# EAGLE library part M25P32 (library memory-spi)
The M25P32 is a 32Mbit (4M x 8) Serial Flash Memory, with advanced write protection mechanisms, accessed by a high speed SPI-compatible bus.
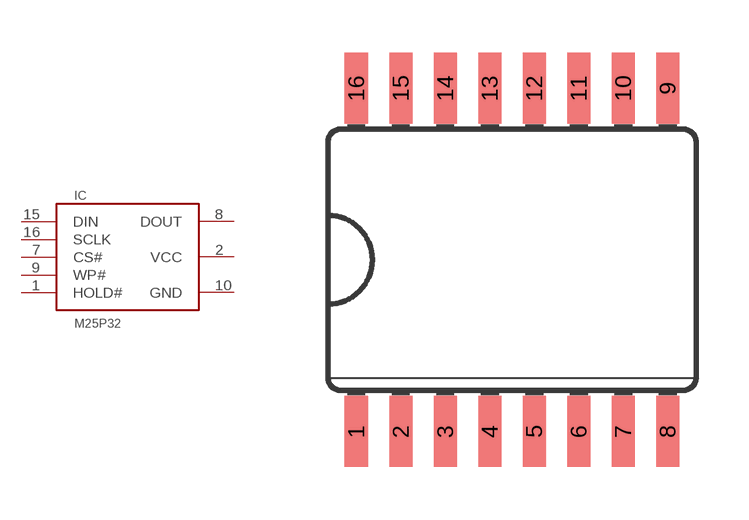
[diagram p2: symbol with the pads of SO16L; footprint SO16L]

Designator prefix IC

## M25P32-VMF6TP  [SO16L]
1  HOLD#  in
2  VCC  pwr
7  CS#  in
8  DOUT  out
9  WP#  in
10  GND  pwr
15  DIN  in
16  SCLK  in

## Footprint SO16L (pad centres in mm)
Small Outline Package .300 SIOC Source: http://www.maxim-ic.com/cgi-bin/packages?pkg=16%2FSOIC%2E300&Type=Max
smd 0.66 x 2.032: 1 -4.445,-4.902; 2 -3.175,-4.902; 3 -1.905,-4.902; 4 -0.635,-4.902; 5 0.635,-4.902; 6 1.905,-4.902; 7 3.175,-4.902; 8 4.445,-4.902; 9 4.445,4.902; 10 3.175,4.902; 11 1.905,4.902; 12 0.635,4.902; 13 -0.635,4.902; 14 -1.905,4.902; 15 -3.175,4.902; 16 -4.445,4.902